# Altium schematic symbol library common.SchLib: 7 symbols
Pins are listed as number, name and electrical type; pins without a type are passive.

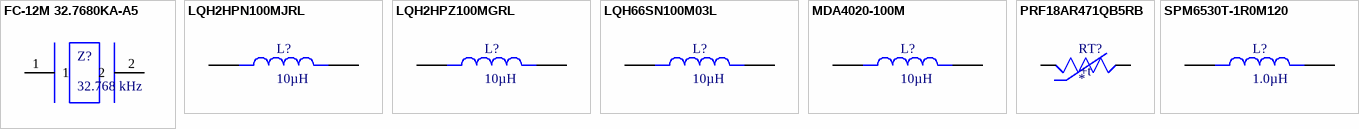
[diagram p0: symbols FC-12M 32.7680KA-A5 to SPM6530T-1R0M120]

## FC-12M 32.7680KA-A5
designator Z?, comment 32.768 kHz
32.768kHz SMD Crystal Resonator 12.5pF 90kΩ ±20ppm -40℃~+85℃ SMD2012-2P Crystals ROHS; Part Number: FC-12M 32.7680KA-A5; Manufacturer: Seiko Epson; Package: SMD2012-2P; Value: 32.768 kHz; Availability: Unavailable; SnapEDA_Link: https://www.snapeda.com/parts/ABS07-32.768KHZ-9/Abracon%20LLC/view-part/517712/?ref=snap; Price: None; LCSC Part Number: C1985211
footprint XTAL320X150X90
pins: 1, 2

## LQH2HPN100MJRL
designator L?, comment 10µH
10µH Shielded Wirewound Inductor 490mA 456mOhm Max 1008 (2520 Metric); Manufacturer: Murata Electronics North America; Part Number: LQH2HPN100MJRL; Package: None; Price: None; Value: 10µH; Availability: Unavailable
footprint IND_LQH2HPN100M
pins: 1, 2

## LQH2HPZ100MGRL
designator L?, comment 10µH
2520 Shielded Wire-wound SMD Inductor with a Ferrite Core, 10μH ±20% Wire-Wound 710mA Idc; Manufacturer: Murata Electronics North America; Part Number: LQH2HPZ100MGRL; Value: 10µH; Package: NONSTANDARD; SnapEDA_Link: https://www.snapeda.com/parts/LQH2HPZ100MGRL/Murata/view-part/1498264/?ref=snap
footprint IND_LQH2HPN100M
pins: 1, 2

## LQH66SN100M03L
designator L?, comment 10µH
LQH66SN_03, 2525 (6363) Shielded Wire-wound SMD Inductor with a Ferrite Core, 10μH ±20% Wire-Wound 1.6A Idc; Part Number: LQH66SN100M03L; Manufacturer: Murata Electronics North America; Value: 10µH; Check_prices: https://www.snapeda.com/parts/LQH66SN100M03L/Murata/view-part/4550275/?ref=eda; Availability: Good; Price: None; Package: NONSTANDARD; Purchase-URL: https://pricing.snapeda.com/search/part/LQH66SN100M03L/?ref=eda; SnapEDA_Link: https://www.snapeda.com/parts/LQH66SN100M03L/Murata/view-part/4550275/?ref=snap
footprint IND_LQH66SN100M03L
pins: 1, 2

## MDA4020-100M
designator L?, comment 10µH
1.9A 10uH ±20% 1.9A 165mΩ SMD,4.5x4.1x1.8mm Inductors (SMD) ROHS; Manufacturer: KOHERelec; Part Number: MDA4020-100M; Package: None; Price: None; Value: 10µH; Availability: Unavailable; LCSC Part Number: C2847473
footprint 4020
pins: 1, 2

## PRF18AR471QB5RB
designator RT?
PTC Thermistor 470 Ohms 0603 (1608 Metric); Manufacturer: Murata Electronics North America; Part Number: PRF18AR471QB5RB; Value: 470; Package: None; Price: None; Availability: Unavailable; LCSC Part Number: C152554
footprint THRMC1608X95N
pins: 1, 2
text: +t

## SPM6530T-1R0M120
designator L?, comment 1.0µH
Shielded Wirewound Inductor 1.0uH 13.2A 0.0071ohms 7.1x6.5x3mm; Manufacturer: TDK; Part Number: SPM6530T-1R0M120; Package: None; Price: None; Value: 1.0µH; Availability: Unavailable; LCSC Part Number: C87572
footprint SPM6530T-1R0M120
pins: 1, 2